# Altium footprint library robot-basketball-basket-counter.PcbLib: 14 footprints
Each footprint in its own frame and in the unit in brackets; x right, y up, seen from the top. Pads: shape width x height; smd on the part's side, far side on the other; paste and mask are expansions set on the pad; w line width, h text height; cw(c..) or ccw(c..) is an arc to the next point about the centre after c.
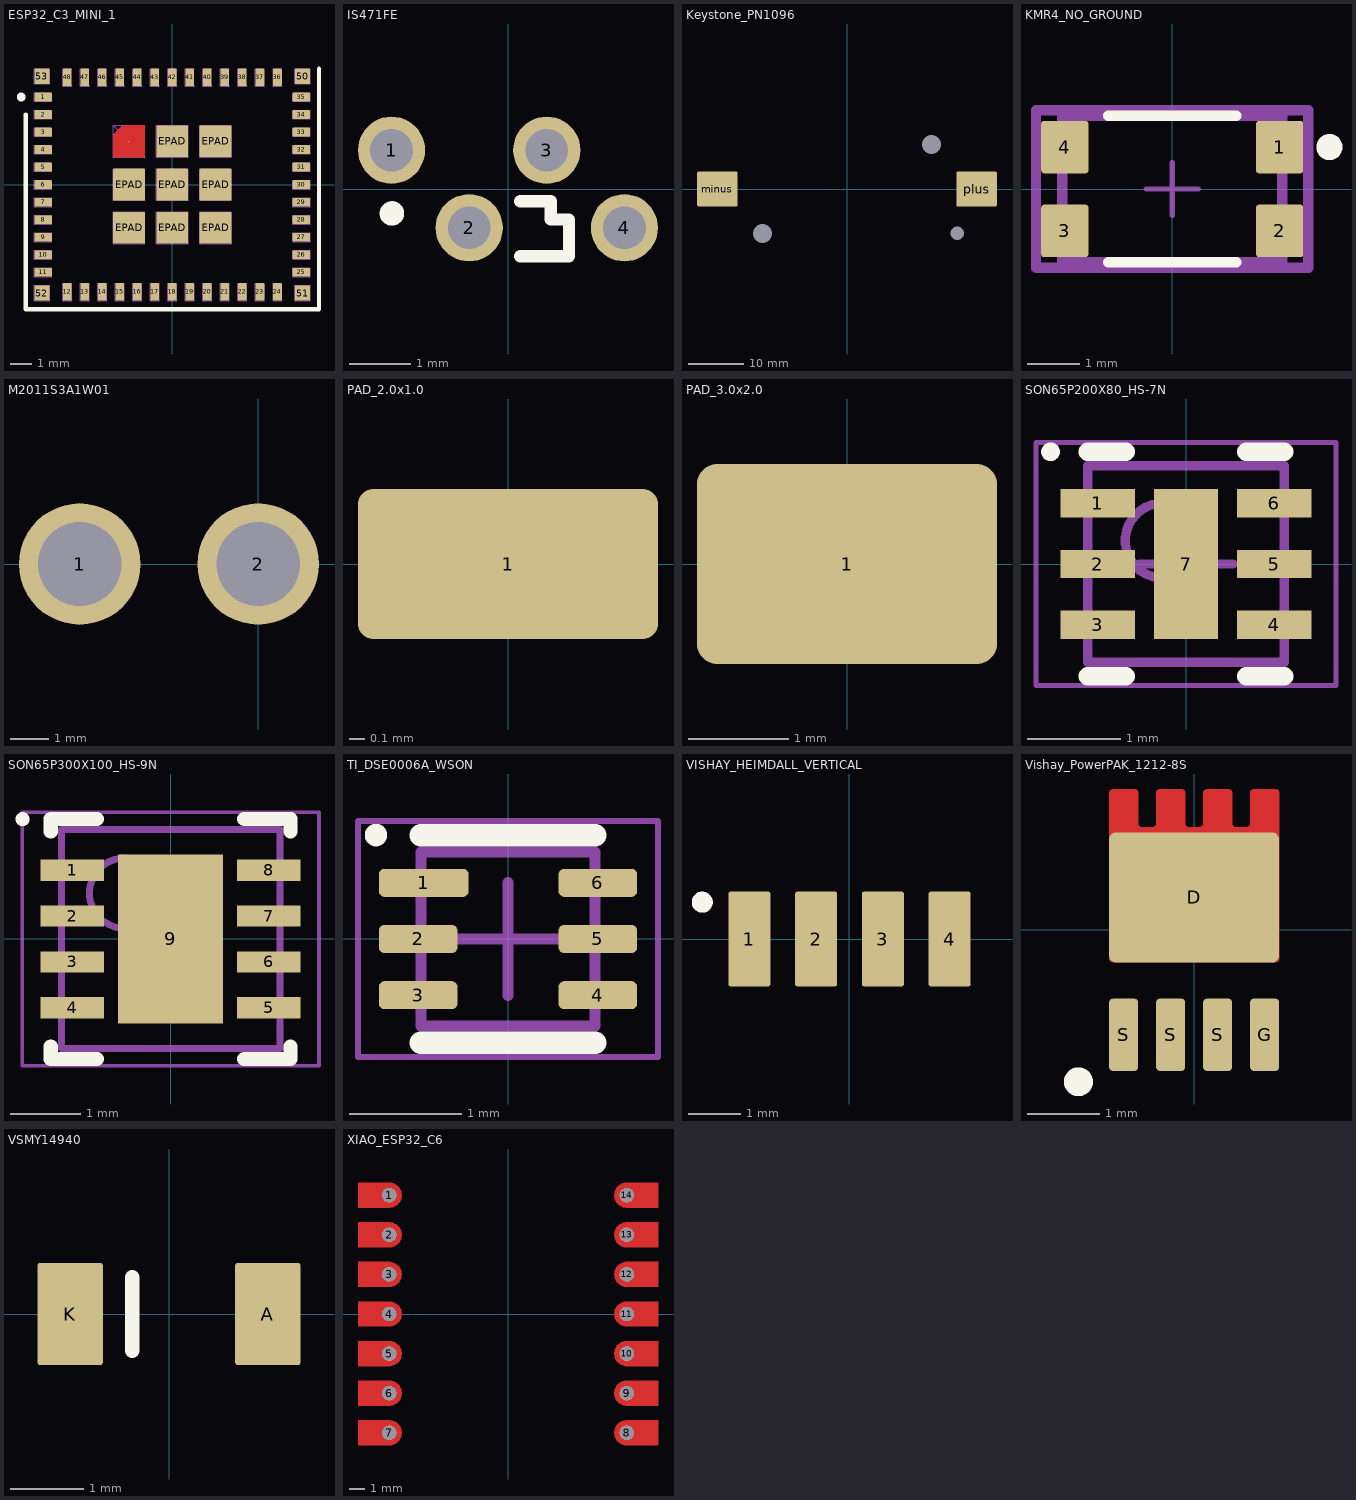
[diagram p0: the footprints below, top view; thin cyan lines are the x and y axes]

## ESP32_C3_MINI_1 [mm]
pads (61):
  rrect25% 0.8x0.4 smd: 1(-5.9,4) 2(-5.9,3.2) 3(-5.9,2.4) 4(-5.9,1.6) 5(-5.9,0.8) 6(-5.9,0) 7(-5.9,-0.8) 8(-5.9,-1.6) 9(-5.9,-2.4) 10(-5.9,-3.2) 11(-5.9,-4) 25(5.9,-4) 26(5.9,-3.2) 27(5.9,-2.4) 28(5.9,-1.6) 29(5.9,-0.8) 30(5.9,0) 31(5.9,0.8) 32(5.9,1.6) 33(5.9,2.4) 34(5.9,3.2) 35(5.9,4)
  rrect25% 0.4x0.8 smd: 12(-4.8,-4.9) 13(-4,-4.9) 14(-3.2,-4.9) 15(-2.4,-4.9) 16(-1.6,-4.9) 17(-0.8,-4.9) 18(0,-4.9) 19(0.8,-4.9) 20(1.6,-4.9) 21(2.4,-4.9) 22(3.2,-4.9) 23(4,-4.9) 24(4.8,-4.9) 36(4.8,4.9) 37(4,4.9) 38(3.2,4.9) 39(2.4,4.9) 40(1.6,4.9) 41(0.8,4.9) 42(0,4.9) 43(-0.8,4.9) 44(-1.6,4.9) 45(-2.4,4.9) 46(-3.2,4.9) 47(-4,4.9) 48(-4.8,4.9)
  rrect14% 0.7x0.7 smd: 50(5.95,4.95) 51(5.95,-4.95) 52(-5.95,-4.95) 53(-5.95,4.95)
  rrect6% 1.45x1.45 smd: EPAD(-1.975,-1.975) EPAD(-1.975,0) EPAD(0,-1.975) EPAD(0,0) EPAD(0,1.975) EPAD(1.975,-1.975) EPAD(1.975,0) EPAD(1.975,1.975)
  round 0.025 smd: EPAD(-1.975,1.975)
Top Layer:
  region: -2.2,2.7 -1.3,2.7 -1.29,2.7 -1.272,2.692 -1.258,2.678 -1.25,2.66 -1.25,2.65 -1.25,1.3 -1.25,1.29 -1.258,1.272 -1.272,1.258 -1.29,1.25 -1.3,1.25 -2.65,1.25 -2.66,1.25 -2.678,1.258 -2.692,1.272 -2.7,1.29 -2.7,1.3 -2.7,2.2 -2.7,2.212 -2.695,2.235 -2.686,2.257 -2.673,2.277 -2.665,2.285 -2.285,2.665 -2.277,2.673 -2.257,2.686 -2.235,2.695 -2.212,2.7
Top Overlay:
  circle w0.2: c-6.9,4 r0.1
  lines w0.2: -6.7,3.2 -6.7,-5.7 6.7,-5.7 6.7,5.3
Mechanical 1:
  drawing of 367 lines, arcs and shapes, not listed
3D body "ESP32-C3-MINI-1_20210903_0.STEP": height 2.4, standoff 0, extent -6.6,-5.6 6.6,11

## IS471FE [mm]
pads (4):
  round 1.1 hole 0.7 unplated: 1(-1.905,0.635) 2(-0.635,-0.635) 3(0.635,0.635) 4(1.905,-0.635)
Top Overlay:
  circle w0.2: c-1.9,-0.4 r0.1
  lines w0.2: 0.2,-1.1 1,-1.1 1,-0.5 0.7,-0.5 0.7,-0.2 0.2,-0.2
3D body "IS417FE_short_leads.step": height 8.3, standoff -2.87, extent -2.5,-1.8 2.5,0.82

## Keystone_PN1096 [mm]
pads (5):
  round 0 hole 3.45 unplated: MH1(-15.24,-8) MH2(15.24,8)
  round 0 hole 2.39 unplated: MH3(19.88,-8)
  rrect10% 7.34x6.35 smd: minus(-23.38,0) plus(23.38,0)
3D body "keystone-PN1096.STEP": height 15.11, standoff -3.18, extent -27.102,-10.325 27.102,10.325

## KMR4_NO_GROUND [mm]
pads (4):
  rrect11% 0.9x1 smd: 1(2.05,0.8) 2(2.05,-0.8) 3(-2.05,-0.8) 4(-2.05,0.8)
Top Overlay:
  circle w0.25: c3,0.8 r0.125
  lines w0.2: -1.225,-1.4 1.225,-1.4 ; -1.225,1.4 1.225,1.4
Top Courtyard:
  lines w0.2: -2.6,-1.5 2.6,-1.5 2.6,1.5 -2.6,1.5 -2.6,-1.5
Top Assembly:
  lines w0.2: -2.6,-1.5 2.6,-1.5 2.6,1.5 -2.6,1.5 -2.6,-1.5
  text ".Designator" at 0,0.188 h1
Top 3D Body:
  lines w0.2: -2.1,-1.4 2.1,-1.4 2.1,1.4 -2.1,1.4 -2.1,-1.4
Top Component Center:
  lines w0.1: -0.5,0 0.5,0 ; 0,-0.5 0,0.5
3D body "Switch_C&K_Components_KMR421NG_LFS_eec.STEP": height 0.25, standoff 0, extent -2.6,-1.5 2.6,1.5

## M2011S3A1W01 [mm]
pads (2):
  round 3.2 hole 2.2: 1(-4.7,0) 2(0,0)
3D body "M2011S3A1W01.stp": height 24.89, standoff -4.72, extent -11.202,-5.994 1.802,5.994

## PAD_2.0x1.0 [mm]
pads (1):
  rrect20% 2x1 smd: 1(0,0)

## PAD_3.0x2.0 [mm]
pads (1):
  rrect20% 3x2 smd: 1(0,0)

## SON65P200X80_HS-7N [mm] "SON, 6-Leads, Body 2,00x2,00mm, Pitch 0,65mm, Thermal Pad 1,60x0,69mm, IPC Medium Density"
height 0.8
pads (7):
  rect 0.8x0.3 smd: 1(-0.945,0.65) 2(-0.945,0) 3(-0.945,-0.65) 4(0.945,-0.65) 5(0.945,0) 6(0.945,0.65)
  rect 0.69x1.6 smd: 7(0,0)
Top Overlay:
  circle w0.1: c-1.45,1.2 r0.05
  lines w0.2: -1.05,-1.2 -0.645,-1.2 ; -1.05,1.2 -0.645,1.2 ; 0.645,-1.2 1.05,-1.2 ; 0.645,1.2 1.05,1.2
Top 3D Body:
  circle w0.1: c-0.25,0.25 r0.4
  lines w0.1: -1.05,-1.05 1.05,-1.05 1.05,1.05 -1.05,1.05 -1.05,-1.05
Mechanical 15:
  lines w0.05: -1.605,-1.3 1.605,-1.3 1.605,1.3 -1.605,1.3 -1.605,-1.3
  lines w0.1: -0.5,0 0.5,0 ; 0,-0.5 0,0.5
3D body "SON65P200X80_HS-7N.step": height 0.8, standoff 0, extent -1.051,-1.05 1.051,1.05

## SON65P300X100_HS-9N [mm] "SON, 8-Leads, Body 3,00x3,00mm, Pitch 0,65mm, Thermal Pad 2,40x1,49mm, IPC Medium Density"
height 1
pads (9):
  rect 0.9x0.3 smd: 1(-1.395,0.975) 2(-1.395,0.325) 3(-1.395,-0.325) 4(-1.395,-0.975) 5(1.395,-0.975) 6(1.395,-0.325) 7(1.395,0.325) 8(1.395,0.975)
  rect 1.49x2.4 smd: 9(0,0)
Top Overlay:
  circle w0.1: c-2.1,1.7 r0.05
  lines w0.2: -1.7,-1.525 -1.7,-1.7 -1.045,-1.7 ; -1.7,1.525 -1.7,1.7 -1.045,1.7 ; 1.045,-1.7 1.7,-1.7 1.7,-1.525 ; 1.045,1.7 1.7,1.7 1.7,1.525
Top 3D Body:
  circle w0.1: c-0.65,0.65 r0.5
  lines w0.1: -1.55,-1.55 1.55,-1.55 1.55,1.55 -1.55,1.55 -1.55,-1.55
Mechanical 15:
  lines w0.05: -2.105,-1.8 2.105,-1.8 2.105,1.8 -2.105,1.8 -2.105,-1.8
  lines w0.1: -0.5,0 0.5,0 ; 0,-0.5 0,0.5
3D body "SON65P300X100_HS-9N.step": height 1, standoff 0, extent -1.551,-1.55 1.551,1.55

## TI_DSE0006A_WSON [mm] "SON, 6-Leads, Body 1,50x1,50mm, Pitch 0,50mm, IPC Medium Density"
height 0.8
pads (6):
  rrect40% 0.8x0.25 smd: 1(-0.75,0.5)
  rrect40% 0.7x0.25 smd: 2(-0.8,0) 3(-0.8,-0.5) 4(0.8,-0.5) 5(0.8,0) 6(0.8,0.5)
Top Overlay:
  circle w0.1: c-1.175,0.925 r0.05
  lines w0.2: -0.775,-0.925 0.775,-0.925 ; -0.775,0.925 0.775,0.925
Top 3D Body:
  lines w0.1: -0.775,-0.775 -0.775,0.775 0.775,0.775 0.775,-0.775 -0.775,-0.775
Mechanical 15:
  lines w0.05: -1.335,-1.05 -1.335,1.05 1.335,1.05 1.335,-1.05 -1.335,-1.05
  lines w0.1: -0.5,0 0.5,0 ; 0,-0.5 0,0.5
3D body "SON50P150X80-6N.step": height 0.8, standoff 0, extent -0.776,-0.775 0.776,0.775

## VISHAY_HEIMDALL_VERTICAL [mm]
pads (4):
  rrect10% 0.8x1.8 smd: 1(-1.905,0) 2(-0.635,0) 3(0.635,0) 4(1.905,0)
Top Overlay:
  circle w0.2: c-2.8,0.7 r0.1
3D body "82672Heimdall.stp": height 3.1, standoff 0, extent -3.45,-2.712 3.45,0.488

## Vishay_PowerPAK_1212-8S [mm]
pads (5):
  rrect10% 2.35x1.8 smd paste-2539.97 mask+0: D(0,0.45)
  rrect25% 0.4x1 smd: G(0.975,-1.45) S(-0.975,-1.45) S(-0.325,-1.45) S(0.325,-1.45)
Top Layer:
  region: -1.175,1.9 -1.175,-0.4 -1.175,-0.41 -1.167,-0.428 -1.153,-0.442 -1.135,-0.45 -1.125,-0.45 1.125,-0.45 1.135,-0.45 1.153,-0.442 1.167,-0.428 1.175,-0.41 1.175,-0.4 1.175,1.9 1.175,1.91 1.167,1.928 1.153,1.942 1.135,1.95 1.125,1.95 0.825,1.95 0.815,1.95 0.797,1.942 0.783,1.928 0.775,1.91 0.775,1.9 0.775,1.475 0.774,1.465 0.766,1.446 0.752,1.431 0.733,1.423 0.722,1.422 0.577,1.422 0.567,1.424 0.548,1.431 0.534,1.446 0.526,1.465 0.525,1.475 0.525,1.9 0.525,1.91 0.517,1.928 0.503,1.942 0.485,1.95 0.475,1.95 0.175,1.95 0.165,1.95 0.147,1.942 0.133,1.928 0.125,1.91 0.125,1.9 0.125,1.475 0.124,1.465 0.116,1.446 0.102,1.431 0.083,1.423 0.072,1.422 -0.072,1.422 -0.083,1.423 -0.102,1.431 -0.116,1.446 -0.124,1.465 -0.125,1.475 -0.125,1.9 -0.125,1.91 -0.133,1.928 -0.147,1.942 -0.165,1.95 -0.175,1.95 -0.475,1.95 -0.485,1.95 -0.503,1.942 -0.517,1.928 -0.525,1.91 -0.525,1.9 -0.525,1.475 -0.526,1.465 -0.534,1.446 -0.548,1.431 -0.567,1.423 -0.578,1.422 -0.722,1.422 -0.733,1.424 -0.752,1.431 -0.766,1.446 -0.774,1.465 -0.775,1.475 -0.775,1.9 -0.775,1.91 -0.783,1.928 -0.797,1.942 -0.815,1.95 -0.825,1.95 -1.125,1.95 -1.135,1.95 -1.153,1.942 -1.167,1.928 -1.175,1.91
Top Overlay:
  circle w0.2: c-1.6,-2.1 r0.1
3D body "Vishay_PowerPAK_1212-8S.step": height 0.8, standoff 0, extent -1.65,-1.66 1.65,1.66

## VSMY14940 [mm]
pads (2):
  rrect10% 0.9x1.4 smd: A(1.35,0) K(-1.35,0)
Top Overlay:
  lines w0.2: -0.5,-0.5 -0.5,0.5
3D body "VSMY14940.step": height 1.2, standoff 0, extent -1.501,-1.99 1.501,0.55

## XIAO_ESP32_C6 [mm]
pads (14):
  round 0.925 / inner round 0 / far side round 1.5 hole 0.9: 1(-7.62,7.62) 2(-7.62,5.08) 3(-7.62,2.54) 4(-7.62,0) 5(-7.62,-2.54) 6(-7.62,-5.08) 7(-7.62,-7.62) 8(7.62,-7.62) 9(7.62,-5.08) 10(7.62,-2.54) 11(7.62,0) 12(7.62,2.54) 13(7.62,5.08) 14(7.62,7.62)
Top Layer:
  region: -7.62,6.82 -9.62,6.82 -9.62,8.42 -7.62,8.42 -7.568,8.42 -7.464,8.406 -7.362,8.379 -7.265,8.339 -7.175,8.287 -7.091,8.223 -7.017,8.149 -6.953,8.065 -6.901,7.975 -6.861,7.878 -6.834,7.776 -6.82,7.672 -6.82,7.62 -6.82,7.568 -6.834,7.464 -6.861,7.362 -6.901,7.265 -6.953,7.175 -7.017,7.091 -7.091,7.017 -7.175,6.953 -7.265,6.901 -7.362,6.861 -7.464,6.834 -7.568,6.82
  region: -7.62,4.28 -9.62,4.28 -9.62,5.88 -7.62,5.88 -7.568,5.88 -7.464,5.866 -7.362,5.839 -7.265,5.799 -7.175,5.747 -7.091,5.683 -7.017,5.609 -6.953,5.525 -6.901,5.435 -6.861,5.338 -6.834,5.236 -6.82,5.132 -6.82,5.08 -6.82,5.028 -6.834,4.924 -6.861,4.822 -6.901,4.725 -6.953,4.635 -7.017,4.551 -7.091,4.477 -7.175,4.413 -7.265,4.361 -7.362,4.321 -7.464,4.294 -7.568,4.28
  region: -7.62,1.74 -9.62,1.74 -9.62,3.34 -7.62,3.34 -7.568,3.34 -7.464,3.326 -7.362,3.299 -7.265,3.259 -7.175,3.207 -7.091,3.143 -7.017,3.069 -6.953,2.985 -6.901,2.895 -6.861,2.798 -6.834,2.696 -6.82,2.592 -6.82,2.54 -6.82,2.488 -6.834,2.384 -6.861,2.282 -6.901,2.185 -6.953,2.095 -7.017,2.011 -7.091,1.937 -7.175,1.873 -7.265,1.821 -7.362,1.781 -7.464,1.754 -7.568,1.74
  region: -7.62,-0.8 -9.62,-0.8 -9.62,0.8 -7.62,0.8 -7.568,0.8 -7.464,0.786 -7.362,0.759 -7.265,0.719 -7.175,0.667 -7.091,0.603 -7.017,0.529 -6.953,0.445 -6.901,0.355 -6.861,0.258 -6.834,0.156 -6.82,0.052 -6.82,0 -6.82,-0.052 -6.834,-0.156 -6.861,-0.258 -6.901,-0.355 -6.953,-0.445 -7.017,-0.529 -7.091,-0.603 -7.175,-0.667 -7.265,-0.719 -7.362,-0.759 -7.464,-0.786 -7.568,-0.8
  region: -7.62,-3.34 -9.62,-3.34 -9.62,-1.74 -7.62,-1.74 -7.568,-1.74 -7.464,-1.754 -7.362,-1.781 -7.265,-1.821 -7.175,-1.873 -7.091,-1.937 -7.017,-2.011 -6.953,-2.095 -6.901,-2.185 -6.861,-2.282 -6.834,-2.384 -6.82,-2.488 -6.82,-2.54 -6.82,-2.592 -6.834,-2.696 -6.861,-2.798 -6.901,-2.895 -6.953,-2.985 -7.017,-3.069 -7.091,-3.143 -7.175,-3.207 -7.265,-3.259 -7.362,-3.299 -7.464,-3.326 -7.568,-3.34
  region: -7.62,-5.88 -9.62,-5.88 -9.62,-4.28 -7.62,-4.28 -7.568,-4.28 -7.464,-4.294 -7.362,-4.321 -7.265,-4.361 -7.175,-4.413 -7.091,-4.477 -7.017,-4.551 -6.953,-4.635 -6.901,-4.725 -6.861,-4.822 -6.834,-4.924 -6.82,-5.028 -6.82,-5.08 -6.82,-5.132 -6.834,-5.236 -6.861,-5.338 -6.901,-5.435 -6.953,-5.525 -7.017,-5.609 -7.091,-5.683 -7.175,-5.747 -7.265,-5.799 -7.362,-5.839 -7.464,-5.866 -7.568,-5.88
  region: -7.62,-8.42 -9.62,-8.42 -9.62,-6.82 -7.62,-6.82 -7.568,-6.82 -7.464,-6.834 -7.362,-6.861 -7.265,-6.901 -7.175,-6.953 -7.091,-7.017 -7.017,-7.091 -6.953,-7.175 -6.901,-7.265 -6.861,-7.362 -6.834,-7.464 -6.82,-7.568 -6.82,-7.62 -6.82,-7.672 -6.834,-7.776 -6.861,-7.878 -6.901,-7.975 -6.953,-8.065 -7.017,-8.149 -7.091,-8.223 -7.175,-8.287 -7.265,-8.339 -7.362,-8.379 -7.464,-8.406 -7.568,-8.42
  region: 7.62,-6.82 9.62,-6.82 9.62,-8.42 7.62,-8.42 7.568,-8.42 7.464,-8.406 7.362,-8.379 7.265,-8.339 7.175,-8.287 7.091,-8.223 7.017,-8.149 6.953,-8.065 6.901,-7.975 6.861,-7.878 6.834,-7.776 6.82,-7.672 6.82,-7.62 6.82,-7.568 6.834,-7.464 6.861,-7.362 6.901,-7.265 6.953,-7.175 7.017,-7.091 7.091,-7.017 7.175,-6.953 7.265,-6.901 7.362,-6.861 7.464,-6.834 7.568,-6.82
  region: 7.62,-4.28 9.62,-4.28 9.62,-5.88 7.62,-5.88 7.568,-5.88 7.464,-5.866 7.362,-5.839 7.265,-5.799 7.175,-5.747 7.091,-5.683 7.017,-5.609 6.953,-5.525 6.901,-5.435 6.861,-5.338 6.834,-5.236 6.82,-5.132 6.82,-5.08 6.82,-5.028 6.834,-4.924 6.861,-4.822 6.901,-4.725 6.953,-4.635 7.017,-4.551 7.091,-4.477 7.175,-4.413 7.265,-4.361 7.362,-4.321 7.464,-4.294 7.568,-4.28
  region: 7.62,-1.74 9.62,-1.74 9.62,-3.34 7.62,-3.34 7.568,-3.34 7.464,-3.326 7.362,-3.299 7.265,-3.259 7.175,-3.207 7.091,-3.143 7.017,-3.069 6.953,-2.985 6.901,-2.895 6.861,-2.798 6.834,-2.696 6.82,-2.592 6.82,-2.54 6.82,-2.488 6.834,-2.384 6.861,-2.282 6.901,-2.185 6.953,-2.095 7.017,-2.011 7.091,-1.937 7.175,-1.873 7.265,-1.821 7.362,-1.781 7.464,-1.754 7.568,-1.74
  region: 7.62,0.8 9.62,0.8 9.62,-0.8 7.62,-0.8 7.568,-0.8 7.464,-0.786 7.362,-0.759 7.265,-0.719 7.175,-0.667 7.091,-0.603 7.017,-0.529 6.953,-0.445 6.901,-0.355 6.861,-0.258 6.834,-0.156 6.82,-0.052 6.82,0 6.82,0.052 6.834,0.156 6.861,0.258 6.901,0.355 6.953,0.445 7.017,0.529 7.091,0.603 7.175,0.667 7.265,0.719 7.362,0.759 7.464,0.786 7.568,0.8
  region: 7.62,3.34 9.62,3.34 9.62,1.74 7.62,1.74 7.568,1.74 7.464,1.754 7.362,1.781 7.265,1.821 7.175,1.873 7.091,1.937 7.017,2.011 6.953,2.095 6.901,2.185 6.861,2.282 6.834,2.384 6.82,2.488 6.82,2.54 6.82,2.592 6.834,2.696 6.861,2.798 6.901,2.895 6.953,2.985 7.017,3.069 7.091,3.143 7.175,3.207 7.265,3.259 7.362,3.299 7.464,3.326 7.568,3.34
  region: 7.62,5.88 9.62,5.88 9.62,4.28 7.62,4.28 7.568,4.28 7.464,4.294 7.362,4.321 7.265,4.361 7.175,4.413 7.091,4.477 7.017,4.551 6.953,4.635 6.901,4.725 6.861,4.822 6.834,4.924 6.82,5.028 6.82,5.08 6.82,5.132 6.834,5.236 6.861,5.338 6.901,5.435 6.953,5.525 7.017,5.609 7.091,5.683 7.175,5.747 7.265,5.799 7.362,5.839 7.464,5.866 7.568,5.88
  region: 7.62,8.42 9.62,8.42 9.62,6.82 7.62,6.82 7.568,6.82 7.464,6.834 7.362,6.861 7.265,6.901 7.175,6.953 7.091,7.017 7.017,7.091 6.953,7.175 6.901,7.265 6.861,7.362 6.834,7.464 6.82,7.568 6.82,7.62 6.82,7.672 6.834,7.776 6.861,7.878 6.901,7.975 6.953,8.065 7.017,8.149 7.091,8.223 7.175,8.287 7.265,8.339 7.362,8.379 7.464,8.406 7.568,8.42
3D body "XIAO_ESP32_C6.step": height 9.96, standoff 5, extent -8.889,-10.416 8.891,11.906